# Altium footprint library LED's.PcbLib: 5 footprints
Each footprint in its own frame and in the unit in brackets; x right, y up, seen from the top. Pads: shape width x height; smd on the part's side, far side on the other; paste and mask are expansions set on the pad; w line width, h text height; cw(c..) or ccw(c..) is an arc to the next point about the centre after c.
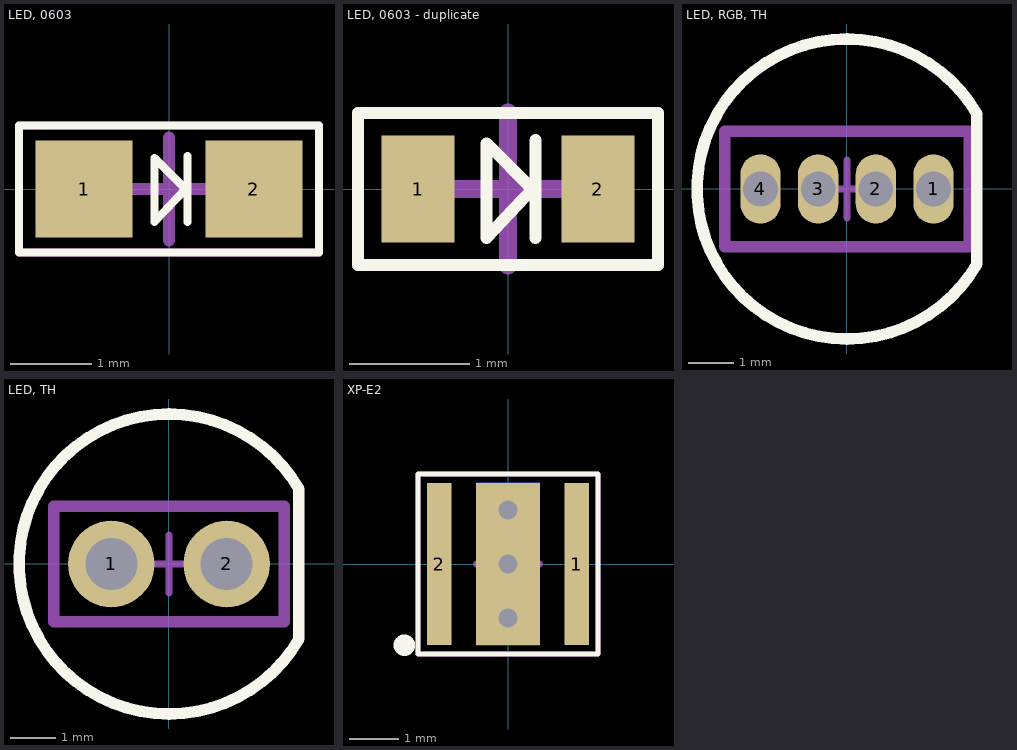
[diagram p0: the footprints below, top view; thin cyan lines are the x and y axes]

## LED, 0603 [mm] "Generic 0603 SMD"
height 2.54
pads (2):
  rect 1.2x1.2 smd: 1(-1.05,0) 2(1.05,0)
Top Overlay:
  lines w0.1: 0.229,-0.406 0.229,0.406 ; -1.854,-0.787 -1.854,0.787 1.854,0.787 1.854,-0.787 -1.854,-0.787 ; -0.178,-0.406 0.203,0 -0.178,0.381 -0.178,-0.406
Mechanical 15:
  lines w0.1: -1.854,-0.787 1.854,-0.787 1.854,0.787 -1.854,0.787 -1.854,-0.787
  lines w0.152: -0.635,0 0.635,0 ; 0,-0.635 0,0.635
3D body "User Library-led_0805.step": height 1.1, standoff 0, extent -1.004,-0.631 1.016,0.619

## LED, 0603 - duplicate [mil] "Generic 0603 SMD"
height 100
pads (2):
  rect 24x35 smd: 1(-29.5,0) 2(29.5,0)
Top Overlay:
  lines w3.94: 9,-16 9,16 ; -49.21,-25 -49.21,25 49.21,25 49.21,-25 -49.21,-25 ; -7,-16 8,0 -7,15 -7,-16
Mechanical 15:
  lines w3.94: -49.21,-25 49.21,-25 49.21,25 -49.21,25 -49.21,-25
  lines w6: -25,0 25,0 ; 0,-25 0,25
3D body "LED 0603 single color.stp": height 27.6, standoff -0.3, extent -31.25,-15.75 31.75,15.25

## LED, RGB, TH [mil] "Through Hole LED"
height 100
pads (4):
  oval 35x60 hole 30: 1(75,0) 2(25,0) 3(-25,0) 4(-75,0)
Top Overlay:
  lines w10: 112.5,-65 112.5,65 ; 112.58,-65 cw(c0,0) 112.58,65
Mechanical 15:
  lines w6: -25,0 25,0 ; 0,-25 0,25
  lines w10: -106,-50 106,-50 106,50 -106,50 -106,-50
3D body "LED_RGB.stp": height 340.55, standoff -1062.99, extent -100.39,-96.44 96.45,96.46

## LED, TH [mil] "Through Hole LED"
height 100
pads (2):
  round 75 hole 45: 1(-50,0) 2(50,0)
Top Overlay:
  lines w10: 112.58,-65 cw(c0,0) 112.58,65 112.58,-65
Mechanical 15:
  lines w6: -25,0 25,0 ; 0,-25 0,25
  lines w10: -100,-50 100,-50 100,50 -100,50 -100,-50
3D body "LED 5mm.STEP": height 346.46, standoff -1062.99, extent -118.11,-118.1 98.43,118.1

## XP-E2 [mm] "Cree XP-E2 LED Package"
height 2.54
pads (4):
  rect 0.5x3.3 smd: 1(1.4,0) 2(-1.4,0)
  rect 1.3x3.3 smd: ""(0,0)
  rect 1.3x3.3 smd far side: ""(0,0)
via 0,0 diameter 0.762 hole 0.381
via 0,1.1 diameter 0.762 hole 0.381
via 0,-1.1 diameter 0.762 hole 0.381
Top Overlay:
  circle w0.254: c-2.108,-1.651 r0.092
  lines w0.1: -1.829,-1.829 -1.829,1.829 1.829,1.829 1.829,-1.829 -1.829,-1.829
Mechanical 15:
  lines w0.1: -1.829,-1.829 1.829,-1.829 1.829,1.829 -1.829,1.829 -1.829,-1.829
  lines w0.152: -0.635,0 0.635,0 ; 0,-0.635 0,0.635
3D body "XLamp_XPG2_3D_STEP.stp": height 2.23, standoff -0.03, extent -1.725,-1.725 1.725,1.725